# Altium footprint library Connector_Zhaoxing.PcbLib: 9 footprints
Each footprint in its own frame and in the unit in brackets; x right, y up, seen from the top. Pads: shape width x height; smd on the part's side, far side on the other; paste and mask are expansions set on the pad; w line width, h text height; cw(c..) or ccw(c..) is an arc to the next point about the centre after c.
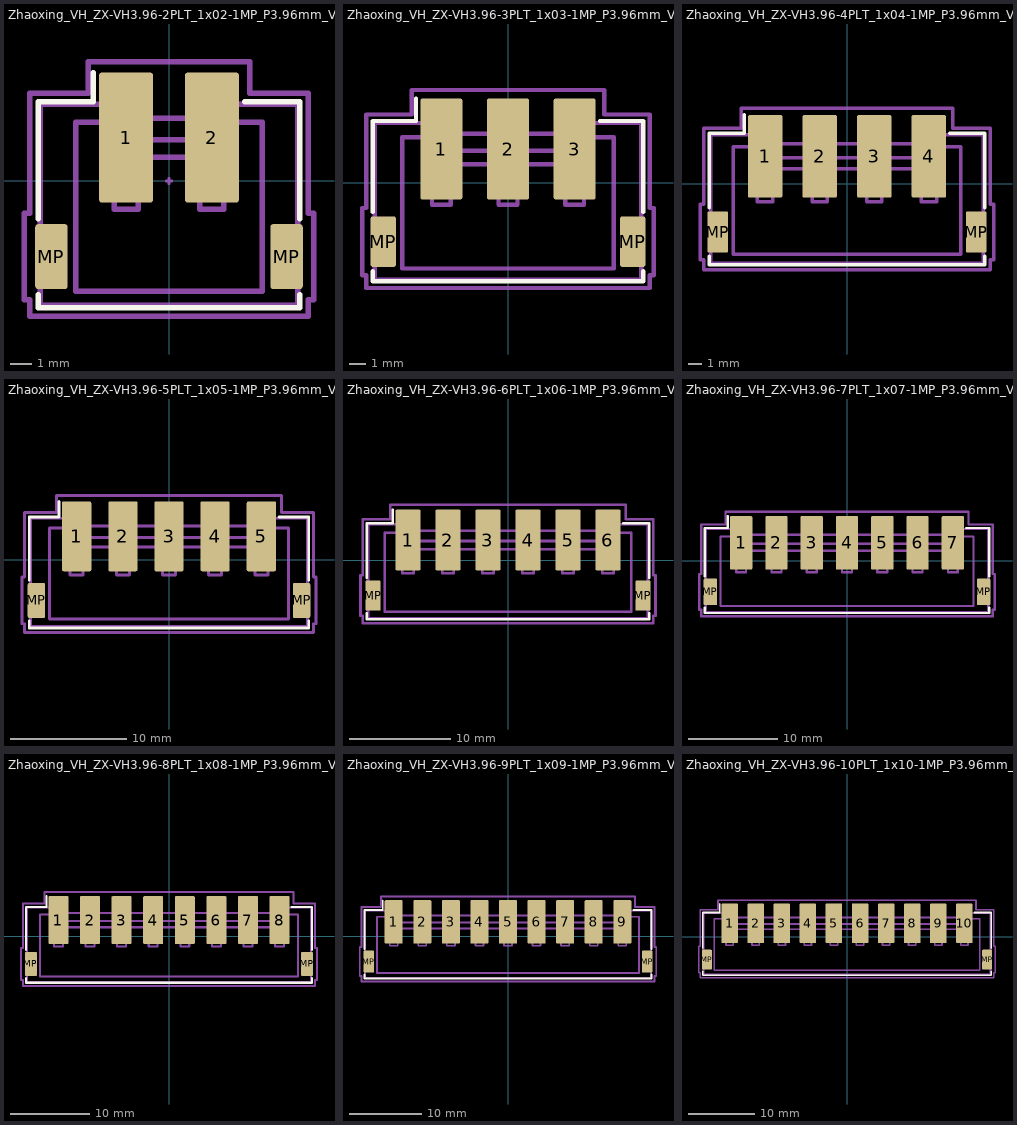
[diagram p0: the footprints below, top view; thin cyan lines are the x and y axes]

## Zhaoxing_VH_ZX-VH3.96-2PLT_1x02-1MP_P3.96mm_Vertical [mm]
pads (4):
  rrect10% 2.5x6 smd: 1(-1.98,2) 2(1.98,2)
  rrect17% 1.5x3 smd: MP(-5.43,-3.5) MP(5.43,-3.5)
F.SilkS:
  lines w0.254: -6.05,-5.26 -6.05,-5.86 6.05,-5.86 6.05,-5.26 ; -6.05,-1.74 -6.05,3.66 -3.49,3.66 -3.49,5 ; 3.49,3.66 6.05,3.66 6.05,-1.74
Top Component Center:
  lines w0.127: -0.127,0 0.127,0 ; 0,-0.127 0,0.127
Top Assembly:
  lines w0.254: -2.48,1.1 -1.98,0.393 -1.48,1.1 ; -1.98,2.9 -1.98,1.9 0,1.9 1.98,1.9 1.98,2.9 ; -1.98,2.9 1.98,2.9 ; -1.98,2.9 -1.98,3.55 -5.94,3.55 -5.94,-5.75 5.94,-5.75 5.94,3.55 1.98,3.55 1.98,2.9 ; -4.3,-5.1 0,-5.1 4.3,-5.1 4.3,2.7 2.54,2.7 2.54,1.1 0,1.1 -2.54,1.1 -2.54,2.7 -4.3,2.7 -4.3,-5.1 ; -2.54,-1.31 -1.42,-1.31 -1.42,-0.19 -2.54,-0.19 -2.54,-1.31 ; 1.42,-1.31 2.54,-1.31 2.54,-0.19 1.42,-0.19 1.42,-1.31
  text "'.Designator'" at -4.047,-3.84 h1
Top Courtyard:
  lines w0.254: -6.68,-5.5 -6.44,-5.5 -6.44,-6.25 6.44,-6.25 6.44,-5.5 6.68,-5.5 6.68,-1.5 6.44,-1.5 6.44,4.05 3.73,4.05 3.73,5.5 -3.73,5.5 -3.73,4.05 -6.44,4.05 -6.44,-1.5 -6.68,-1.5 -6.68,-5.5
Top Designator:
  text ".Designator" at -7.618,-0.883 h1.52

## Zhaoxing_VH_ZX-VH3.96-3PLT_1x03-1MP_P3.96mm_Vertical [mm]
pads (5):
  rrect10% 2.5x6 smd: 1(-3.96,2) 2(0,2) 3(3.96,2)
  rrect17% 1.5x3 smd: MP(-7.41,-3.5) MP(7.41,-3.5)
F.SilkS:
  lines w0.254: -8.03,-5.26 -8.03,-5.86 8.03,-5.86 8.03,-5.26 ; -8.03,-1.74 -8.03,3.66 -5.47,3.66 -5.47,5 ; 5.47,3.66 8.03,3.66 8.03,-1.74
Top Assembly:
  lines w0.254: -4.46,1.1 -3.96,0.393 -3.46,1.1 ; -3.96,2.9 -3.96,1.9 0,1.9 3.96,1.9 3.96,2.9 ; -3.96,2.9 3.96,2.9 ; -3.96,2.9 -3.96,3.55 -7.92,3.55 -7.92,-5.75 7.92,-5.75 7.92,3.55 3.96,3.55 3.96,2.9 ; -6.28,-5.1 0,-5.1 6.28,-5.1 6.28,2.7 4.52,2.7 4.52,1.1 0,1.1 -4.52,1.1 -4.52,2.7 -6.28,2.7 -6.28,-5.1 ; -4.52,-1.31 -3.4,-1.31 -3.4,-0.19 -4.52,-0.19 -4.52,-1.31 ; -0.56,-1.31 0.56,-1.31 0.56,-0.19 -0.56,-0.19 -0.56,-1.31 ; 3.4,-1.31 4.52,-1.31 4.52,-0.19 3.4,-0.19 3.4,-1.31
  text "'.Designator'" at -4.047,-3.84 h1
Top Courtyard:
  lines w0.254: -8.66,-5.5 -8.42,-5.5 -8.42,-6.25 8.42,-6.25 8.42,-5.5 8.66,-5.5 8.66,-1.5 8.42,-1.5 8.42,4.05 5.71,4.05 5.71,5.5 -5.71,5.5 -5.71,4.05 -8.42,4.05 -8.42,-1.5 -8.66,-1.5 -8.66,-5.5
Top Designator:
  text ".Designator" at -7.618,-0.883 h1.52

## Zhaoxing_VH_ZX-VH3.96-4PLT_1x04-1MP_P3.96mm_Vertical [mm]
pads (6):
  rrect10% 2.5x6 smd: 1(-5.94,2) 2(-1.98,2) 3(1.98,2) 4(5.94,2)
  rrect17% 1.5x3 smd: MP(-9.39,-3.5) MP(9.39,-3.5)
F.SilkS:
  lines w0.254: -10.01,-5.26 -10.01,-5.86 10.01,-5.86 10.01,-5.26 ; -10.01,-1.74 -10.01,3.66 -7.45,3.66 -7.45,5 ; 7.45,3.66 10.01,3.66 10.01,-1.74
Top Assembly:
  lines w0.254: -6.44,1.1 -5.94,0.393 -5.44,1.1 ; -5.94,2.9 -5.94,1.9 0,1.9 5.94,1.9 5.94,2.9 ; -5.94,2.9 5.94,2.9 ; -5.94,2.9 -5.94,3.55 -9.9,3.55 -9.9,-5.75 9.9,-5.75 9.9,3.55 5.94,3.55 5.94,2.9 ; -8.26,-5.1 0,-5.1 8.26,-5.1 8.26,2.7 6.5,2.7 6.5,1.1 0,1.1 -6.5,1.1 -6.5,2.7 -8.26,2.7 -8.26,-5.1 ; -6.5,-1.31 -5.38,-1.31 -5.38,-0.19 -6.5,-0.19 -6.5,-1.31 ; -2.54,-1.31 -1.42,-1.31 -1.42,-0.19 -2.54,-0.19 -2.54,-1.31 ; 1.42,-1.31 2.54,-1.31 2.54,-0.19 1.42,-0.19 1.42,-1.31 ; 5.38,-1.31 6.5,-1.31 6.5,-0.19 5.38,-0.19 5.38,-1.31
  text "'.Designator'" at -4.047,-3.84 h1
Top Courtyard:
  lines w0.254: -10.64,-5.5 -10.4,-5.5 -10.4,-6.25 10.4,-6.25 10.4,-5.5 10.64,-5.5 10.64,-1.5 10.4,-1.5 10.4,4.05 7.69,4.05 7.69,5.5 -7.69,5.5 -7.69,4.05 -10.4,4.05 -10.4,-1.5 -10.64,-1.5 -10.64,-5.5
Top Designator:
  text ".Designator" at -7.618,-0.883 h1.52

## Zhaoxing_VH_ZX-VH3.96-5PLT_1x05-1MP_P3.96mm_Vertical [mm]
pads (7):
  rrect10% 2.5x6 smd: 1(-7.92,2) 2(-3.96,2) 3(0,2) 4(3.96,2) 5(7.92,2)
  rrect17% 1.5x3 smd: MP(-11.37,-3.5) MP(11.37,-3.5)
F.SilkS:
  lines w0.254: -11.99,-5.26 -11.99,-5.86 11.99,-5.86 11.99,-5.26 ; -11.99,-1.74 -11.99,3.66 -9.43,3.66 -9.43,5 ; 9.43,3.66 11.99,3.66 11.99,-1.74
Top Assembly:
  lines w0.254: -8.42,1.1 -7.92,0.393 -7.42,1.1 ; -7.92,2.9 -7.92,1.9 0,1.9 7.92,1.9 7.92,2.9 ; -7.92,2.9 7.92,2.9 ; -7.92,2.9 -7.92,3.55 -11.88,3.55 -11.88,-5.75 11.88,-5.75 11.88,3.55 7.92,3.55 7.92,2.9 ; -10.24,-5.1 0,-5.1 10.24,-5.1 10.24,2.7 8.48,2.7 8.48,1.1 0,1.1 -8.48,1.1 -8.48,2.7 -10.24,2.7 -10.24,-5.1 ; -8.48,-1.31 -7.36,-1.31 -7.36,-0.19 -8.48,-0.19 -8.48,-1.31 ; -4.52,-1.31 -3.4,-1.31 -3.4,-0.19 -4.52,-0.19 -4.52,-1.31 ; -0.56,-1.31 0.56,-1.31 0.56,-0.19 -0.56,-0.19 -0.56,-1.31 ; 3.4,-1.31 4.52,-1.31 4.52,-0.19 3.4,-0.19 3.4,-1.31 ; 7.36,-1.31 8.48,-1.31 8.48,-0.19 7.36,-0.19 7.36,-1.31
  text "'.Designator'" at -4.047,-3.84 h1
Top Courtyard:
  lines w0.254: -12.62,-5.5 -12.38,-5.5 -12.38,-6.25 12.38,-6.25 12.38,-5.5 12.62,-5.5 12.62,-1.5 12.38,-1.5 12.38,4.05 9.67,4.05 9.67,5.5 -9.67,5.5 -9.67,4.05 -12.38,4.05 -12.38,-1.5 -12.62,-1.5 -12.62,-5.5
Top Designator:
  text ".Designator" at -7.618,-0.883 h1.52

## Zhaoxing_VH_ZX-VH3.96-6PLT_1x06-1MP_P3.96mm_Vertical [mm]
pads (8):
  rrect10% 2.5x6 smd: 1(-9.9,2) 2(-5.94,2) 3(-1.98,2) 4(1.98,2) 5(5.94,2) 6(9.9,2)
  rrect17% 1.5x3 smd: MP(-13.35,-3.5) MP(13.35,-3.5)
F.SilkS:
  lines w0.254: -13.97,-5.26 -13.97,-5.86 13.97,-5.86 13.97,-5.26 ; -13.97,-1.74 -13.97,3.66 -11.41,3.66 -11.41,5 ; 11.41,3.66 13.97,3.66 13.97,-1.74
Top Assembly:
  lines w0.254: -10.4,1.1 -9.9,0.393 -9.4,1.1 ; -9.9,2.9 -9.9,1.9 0,1.9 9.9,1.9 9.9,2.9 ; -9.9,2.9 9.9,2.9 ; -9.9,2.9 -9.9,3.55 -13.86,3.55 -13.86,-5.75 13.86,-5.75 13.86,3.55 9.9,3.55 9.9,2.9 ; -12.22,-5.1 0,-5.1 12.22,-5.1 12.22,2.7 10.46,2.7 10.46,1.1 0,1.1 -10.46,1.1 -10.46,2.7 -12.22,2.7 -12.22,-5.1 ; -10.46,-1.31 -9.34,-1.31 -9.34,-0.19 -10.46,-0.19 -10.46,-1.31 ; -6.5,-1.31 -5.38,-1.31 -5.38,-0.19 -6.5,-0.19 -6.5,-1.31 ; -2.54,-1.31 -1.42,-1.31 -1.42,-0.19 -2.54,-0.19 -2.54,-1.31 ; 1.42,-1.31 2.54,-1.31 2.54,-0.19 1.42,-0.19 1.42,-1.31 ; 5.38,-1.31 6.5,-1.31 6.5,-0.19 5.38,-0.19 5.38,-1.31 ; 9.34,-1.31 10.46,-1.31 10.46,-0.19 9.34,-0.19 9.34,-1.31
  text "'.Designator'" at -4.047,-3.84 h1
Top Courtyard:
  lines w0.254: -14.6,-5.5 -14.36,-5.5 -14.36,-6.25 14.36,-6.25 14.36,-5.5 14.6,-5.5 14.6,-1.5 14.36,-1.5 14.36,4.05 11.65,4.05 11.65,5.5 -11.65,5.5 -11.65,4.05 -14.36,4.05 -14.36,-1.5 -14.6,-1.5 -14.6,-5.5
Top Designator:
  text ".Designator" at -7.618,-0.883 h1.52

## Zhaoxing_VH_ZX-VH3.96-7PLT_1x07-1MP_P3.96mm_Vertical [mm]
pads (9):
  rrect10% 2.5x6 smd: 1(-11.88,2) 2(-7.92,2) 3(-3.96,2) 4(0,2) 5(3.96,2) 6(7.92,2) 7(11.88,2)
  rrect17% 1.5x3 smd: MP(-15.33,-3.5) MP(15.33,-3.5)
F.SilkS:
  lines w0.254: -15.95,-5.26 -15.95,-5.86 15.95,-5.86 15.95,-5.26 ; -15.95,-1.74 -15.95,3.66 -13.39,3.66 -13.39,5 ; 13.39,3.66 15.95,3.66 15.95,-1.74
Top Assembly:
  lines w0.254: -12.38,1.1 -11.88,0.393 -11.38,1.1 ; -11.88,2.9 -11.88,1.9 0,1.9 11.88,1.9 11.88,2.9 ; -11.88,2.9 11.88,2.9 ; -11.88,2.9 -11.88,3.55 -15.84,3.55 -15.84,-5.75 15.84,-5.75 15.84,3.55 11.88,3.55 11.88,2.9 ; -14.2,-5.1 0,-5.1 14.2,-5.1 14.2,2.7 12.44,2.7 12.44,1.1 0,1.1 -12.44,1.1 -12.44,2.7 -14.2,2.7 -14.2,-5.1 ; -12.44,-1.31 -11.32,-1.31 -11.32,-0.19 -12.44,-0.19 -12.44,-1.31 ; -8.48,-1.31 -7.36,-1.31 -7.36,-0.19 -8.48,-0.19 -8.48,-1.31 ; -4.52,-1.31 -3.4,-1.31 -3.4,-0.19 -4.52,-0.19 -4.52,-1.31 ; -0.56,-1.31 0.56,-1.31 0.56,-0.19 -0.56,-0.19 -0.56,-1.31 ; 3.4,-1.31 4.52,-1.31 4.52,-0.19 3.4,-0.19 3.4,-1.31 ; 7.36,-1.31 8.48,-1.31 8.48,-0.19 7.36,-0.19 7.36,-1.31 ; 11.32,-1.31 12.44,-1.31 12.44,-0.19 11.32,-0.19 11.32,-1.31
  text "'.Designator'" at -4.047,-3.84 h1
Top Courtyard:
  lines w0.254: -16.58,-5.5 -16.34,-5.5 -16.34,-6.25 16.34,-6.25 16.34,-5.5 16.58,-5.5 16.58,-1.5 16.34,-1.5 16.34,4.05 13.63,4.05 13.63,5.5 -13.63,5.5 -13.63,4.05 -16.34,4.05 -16.34,-1.5 -16.58,-1.5 -16.58,-5.5
Top Designator:
  text ".Designator" at -7.618,-0.883 h1.52

## Zhaoxing_VH_ZX-VH3.96-8PLT_1x08-1MP_P3.96mm_Vertical [mm]
pads (10):
  rrect10% 2.5x6 smd: 1(-13.86,2) 2(-9.9,2) 3(-5.94,2) 4(-1.98,2) 5(1.98,2) 6(5.94,2) 7(9.9,2) 8(13.86,2)
  rrect17% 1.5x3 smd: MP(-17.31,-3.5) MP(17.31,-3.5)
F.SilkS:
  lines w0.254: -17.93,-5.26 -17.93,-5.86 17.93,-5.86 17.93,-5.26 ; -17.93,-1.74 -17.93,3.66 -15.37,3.66 -15.37,5 ; 15.37,3.66 17.93,3.66 17.93,-1.74
Top Assembly:
  lines w0.254: -14.36,1.1 -13.86,0.393 -13.36,1.1 ; -13.86,2.9 -13.86,1.9 0,1.9 13.86,1.9 13.86,2.9 ; -13.86,2.9 13.86,2.9 ; -13.86,2.9 -13.86,3.55 -17.82,3.55 -17.82,-5.75 17.82,-5.75 17.82,3.55 13.86,3.55 13.86,2.9 ; -16.18,-5.1 0,-5.1 16.18,-5.1 16.18,2.7 14.42,2.7 14.42,1.1 0,1.1 -14.42,1.1 -14.42,2.7 -16.18,2.7 -16.18,-5.1 ; -14.42,-1.31 -13.3,-1.31 -13.3,-0.19 -14.42,-0.19 -14.42,-1.31 ; -10.46,-1.31 -9.34,-1.31 -9.34,-0.19 -10.46,-0.19 -10.46,-1.31 ; -6.5,-1.31 -5.38,-1.31 -5.38,-0.19 -6.5,-0.19 -6.5,-1.31 ; -2.54,-1.31 -1.42,-1.31 -1.42,-0.19 -2.54,-0.19 -2.54,-1.31 ; 1.42,-1.31 2.54,-1.31 2.54,-0.19 1.42,-0.19 1.42,-1.31 ; 5.38,-1.31 6.5,-1.31 6.5,-0.19 5.38,-0.19 5.38,-1.31 ; 9.34,-1.31 10.46,-1.31 10.46,-0.19 9.34,-0.19 9.34,-1.31 ; 13.3,-1.31 14.42,-1.31 14.42,-0.19 13.3,-0.19 13.3,-1.31
  text "'.Designator'" at -4.047,-3.84 h1
Top Courtyard:
  lines w0.254: -18.56,-5.5 -18.32,-5.5 -18.32,-6.25 18.32,-6.25 18.32,-5.5 18.56,-5.5 18.56,-1.5 18.32,-1.5 18.32,4.05 15.61,4.05 15.61,5.5 -15.61,5.5 -15.61,4.05 -18.32,4.05 -18.32,-1.5 -18.56,-1.5 -18.56,-5.5
Top Designator:
  text ".Designator" at -7.618,-0.883 h1.52

## Zhaoxing_VH_ZX-VH3.96-9PLT_1x09-1MP_P3.96mm_Vertical [mm]
pads (11):
  rrect10% 2.5x6 smd: 1(-15.84,2) 2(-11.88,2) 3(-7.92,2) 4(-3.96,2) 5(0,2) 6(3.96,2) 7(7.92,2) 8(11.88,2) 9(15.84,2)
  rrect17% 1.5x3 smd: MP(-19.29,-3.5) MP(19.29,-3.5)
F.SilkS:
  lines w0.254: -19.91,-5.26 -19.91,-5.86 19.91,-5.86 19.91,-5.26 ; -19.91,-1.74 -19.91,3.66 -17.35,3.66 -17.35,5 ; 17.35,3.66 19.91,3.66 19.91,-1.74
Top Assembly:
  lines w0.254: -16.34,1.1 -15.84,0.393 -15.34,1.1 ; -15.84,2.9 -15.84,1.9 0,1.9 15.84,1.9 15.84,2.9 ; -15.84,2.9 15.84,2.9 ; -15.84,2.9 -15.84,3.55 -19.8,3.55 -19.8,-5.75 19.8,-5.75 19.8,3.55 15.84,3.55 15.84,2.9 ; -18.16,-5.1 0,-5.1 18.16,-5.1 18.16,2.7 16.4,2.7 16.4,1.1 0,1.1 -16.4,1.1 -16.4,2.7 -18.16,2.7 -18.16,-5.1 ; -16.4,-1.31 -15.28,-1.31 -15.28,-0.19 -16.4,-0.19 -16.4,-1.31 ; -12.44,-1.31 -11.32,-1.31 -11.32,-0.19 -12.44,-0.19 -12.44,-1.31 ; -8.48,-1.31 -7.36,-1.31 -7.36,-0.19 -8.48,-0.19 -8.48,-1.31 ; -4.52,-1.31 -3.4,-1.31 -3.4,-0.19 -4.52,-0.19 -4.52,-1.31 ; -0.56,-1.31 0.56,-1.31 0.56,-0.19 -0.56,-0.19 -0.56,-1.31 ; 3.4,-1.31 4.52,-1.31 4.52,-0.19 3.4,-0.19 3.4,-1.31 ; 7.36,-1.31 8.48,-1.31 8.48,-0.19 7.36,-0.19 7.36,-1.31 ; 11.32,-1.31 12.44,-1.31 12.44,-0.19 11.32,-0.19 11.32,-1.31 ; 15.28,-1.31 16.4,-1.31 16.4,-0.19 15.28,-0.19 15.28,-1.31
  text "'.Designator'" at -4.047,-3.84 h1
Top Courtyard:
  lines w0.254: -20.54,-5.5 -20.3,-5.5 -20.3,-6.25 20.3,-6.25 20.3,-5.5 20.54,-5.5 20.54,-1.5 20.3,-1.5 20.3,4.05 17.59,4.05 17.59,5.5 -17.59,5.5 -17.59,4.05 -20.3,4.05 -20.3,-1.5 -20.54,-1.5 -20.54,-5.5
Top Designator:
  text ".Designator" at -7.618,-0.883 h1.52

## Zhaoxing_VH_ZX-VH3.96-10PLT_1x10-1MP_P3.96mm_Vertical [mm]
pads (12):
  rrect10% 2.5x6 smd: 1(-17.82,2) 2(-13.86,2) 3(-9.9,2) 4(-5.94,2) 5(-1.98,2) 6(1.98,2) 7(5.94,2) 8(9.9,2) 9(13.86,2) 10(17.82,2)
  rrect17% 1.5x3 smd: MP(-21.27,-3.5) MP(21.27,-3.5)
F.SilkS:
  lines w0.254: -21.89,-5.26 -21.89,-5.86 21.89,-5.86 21.89,-5.26 ; -21.89,-1.74 -21.89,3.66 -19.33,3.66 -19.33,5 ; 19.33,3.66 21.89,3.66 21.89,-1.74
Top Assembly:
  lines w0.254: -18.32,1.1 -17.82,0.393 -17.32,1.1 ; -17.82,2.9 -17.82,1.9 0,1.9 17.82,1.9 17.82,2.9 ; -17.82,2.9 17.82,2.9 ; -17.82,2.9 -17.82,3.55 -21.78,3.55 -21.78,-5.75 21.78,-5.75 21.78,3.55 17.82,3.55 17.82,2.9 ; -20.14,-5.1 0,-5.1 20.14,-5.1 20.14,2.7 18.38,2.7 18.38,1.1 0,1.1 -18.38,1.1 -18.38,2.7 -20.14,2.7 -20.14,-5.1 ; -18.38,-1.31 -17.26,-1.31 -17.26,-0.19 -18.38,-0.19 -18.38,-1.31 ; -14.42,-1.31 -13.3,-1.31 -13.3,-0.19 -14.42,-0.19 -14.42,-1.31 ; -10.46,-1.31 -9.34,-1.31 -9.34,-0.19 -10.46,-0.19 -10.46,-1.31 ; -6.5,-1.31 -5.38,-1.31 -5.38,-0.19 -6.5,-0.19 -6.5,-1.31 ; -2.54,-1.31 -1.42,-1.31 -1.42,-0.19 -2.54,-0.19 -2.54,-1.31 ; 1.42,-1.31 2.54,-1.31 2.54,-0.19 1.42,-0.19 1.42,-1.31 ; 5.38,-1.31 6.5,-1.31 6.5,-0.19 5.38,-0.19 5.38,-1.31 ; 9.34,-1.31 10.46,-1.31 10.46,-0.19 9.34,-0.19 9.34,-1.31 ; 13.3,-1.31 14.42,-1.31 14.42,-0.19 13.3,-0.19 13.3,-1.31 ; 17.26,-1.31 18.38,-1.31 18.38,-0.19 17.26,-0.19 17.26,-1.31
  text "'.Designator'" at -4.047,-3.84 h1
Top Courtyard:
  lines w0.254: -22.52,-5.5 -22.28,-5.5 -22.28,-6.25 22.28,-6.25 22.28,-5.5 22.52,-5.5 22.52,-1.5 22.28,-1.5 22.28,4.05 19.57,4.05 19.57,5.5 -19.57,5.5 -19.57,4.05 -22.28,4.05 -22.28,-1.5 -22.52,-1.5 -22.52,-5.5
Top Designator:
  text ".Designator" at -7.618,-0.883 h1.52